# EAGLE library part DIN8 (library con-din8)
Female CONNECTOR 8 pins with shield, horizontal (DIN 41524)
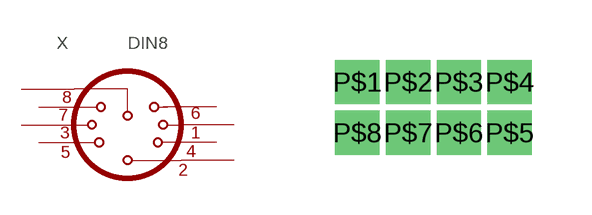
[diagram p0: symbol with the pads of DIN8; footprint DIN8]

Designator prefix X

## DIN8  [DIN8]
P$1  1  pas
P$2  2  pas
P$3  3  pas
P$4  4  pas
P$5  5  pas
P$6  6  pas
P$7  7  pas
P$8  8  pas

## Footprint DIN8 (pad centres in mm)
drill 0.6 square: P$1 -1.27,0; P$2 0,0; P$3 1.27,0; P$4 2.54,0; P$5 2.54,-1.27; P$6 1.27,-1.27; P$7 0,-1.27; P$8 -1.27,-1.27